# Altium schematic symbol library Sch库.SchLib: 10 symbols
Pins are listed as number, name and electrical type; pins without a type are passive.

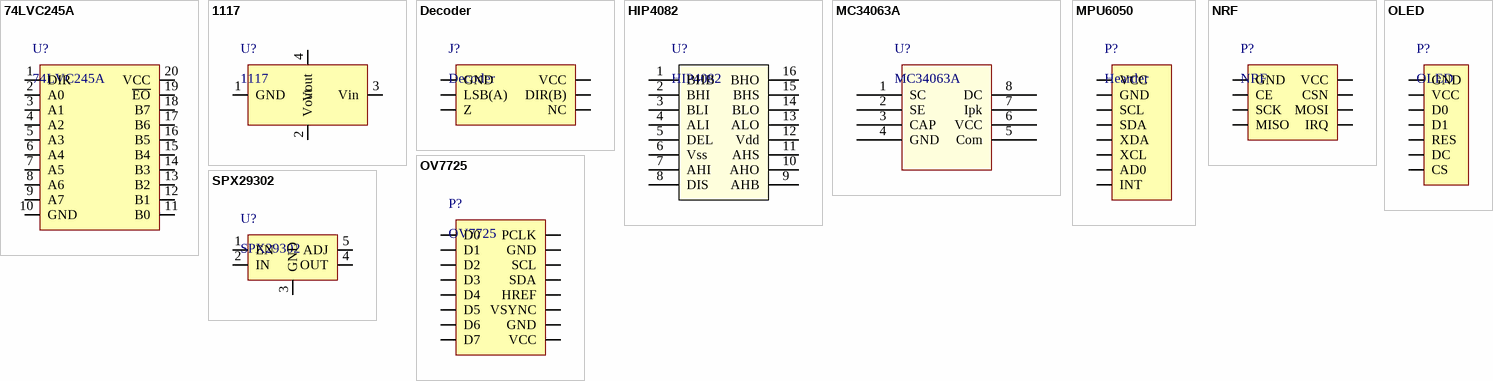
[diagram p0: symbols 74LVC245A to SPX29302]

## 74LVC245A
designator U?
pins: 1 DIR, 2 A0, 3 A1, 4 A2, 5 A3, 6 A4, 7 A5, 8 A6, 9 A7, 10 GND, 11 B0, 12 B1, 13 B2, 14 B3, 15 B4, 16 B5, 17 B6, 18 B7, 19 ~{EO}, 20 VCC

## 1117
designator U?
pins: 1 GND, 2 Vout, 3 Vin, 4 Vout

## Decoder
designator J?
Header-6
footprint Header P3*2
pins: 1 GND, 2 VCC "3.3~5V", 3 LSB(A) "步进脉冲", 4 DIR(B) "旋转方向", 5 Z "机械零位", 6 NC "悬空"

## HIP4082
designator U?
pins: 1 BHB, 2 BHI, 3 BLI, 4 ALI, 5 DEL, 6 Vss, 7 AHI, 8 DIS, 9 AHB, 10 AHO, 11 AHS, 12 Vdd, 13 ALO, 14 BLO, 15 BHS, 16 BHO

## MC34063A
designator U?
pins: 1 SC, 2 SE, 3 CAP, 4 GND, 5 Com, 6 VCC, 7 Ipk, 8 DC

## MPU6050
designator P?, comment Hearder
Header-8
footprint MPU6050
pins: 1 VCC "5V", 2 GND, 3 SCL, 4 SDA, 5 XDA, 6 XCL, 7 AD0, 8 INT

## NRF
designator P?
Header-8
footprint NRF
pins: 1 GND, 2 CE, 3 SCK, 4 MISO, 5 IRQ, 6 MOSI, 7 CSN, 8 VCC

## OLED
designator P?
Header-7
footprint OLED P7
pins: 1 GND, 2 VCC "3.3~5V", 3 D0, 4 D1, 5 RES, 6 DC, 7 CS

## OV7725
designator P?
Header-16
footprint Header P8*2
pins: 1 D0, 2 D1, 3 D2, 4 D3, 5 D4, 6 D5, 7 D6, 8 D7, 9 VCC "3.3V", 10 GND, 11 VSYNC, 12 HREF, 13 SDA, 14 SCL, 15 GND, 16 PCLK

## SPX29302
designator U?
footprint To-263-5
pins: 1 EN, 2 IN, 3 GND, 4 OUT, 5 ADJ